# EAGLE library part LM3658 (library texas)
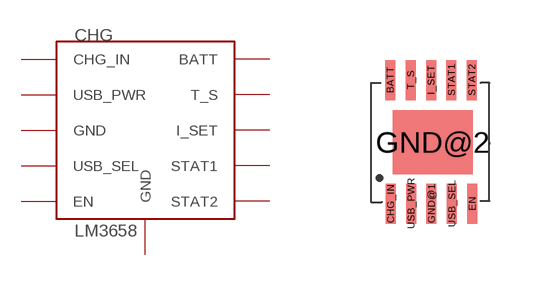
[diagram p126: symbol with the pads of WSON10; footprint WSON10]

Designator prefix CHG

## LM3658  [WSON10]
BATT  BATT
CHG_IN  CHG_IN
EN  EN
GND@1  GND
GND@2  GND
I_SET  I_SET
STAT1  STAT1
STAT2  STAT2
T_S  T_S
USB_PWR  USB_PWR
USB_SEL  USB_SEL

## Footprint WSON10 (pad centres in mm)
smd 0.25 x 1: BATT -9.16,4.37; CHG_IN -9.15,1.28; EN -7.11,1.28; GND@1 -8.13,1.28; I_SET -8.14,4.37; STAT1 -7.63,4.37; STAT2 -7.12,4.37; T_S -8.65,4.37; USB_PWR -8.64,1.28; USB_SEL -7.62,1.28
smd 2 x 1.6: GND@2 -8.1,2.81